# EAGLE library part NC7W*17 (library fairchild-tinylogic)
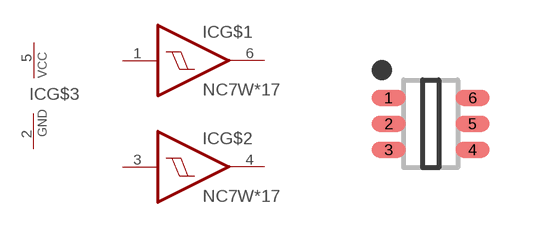
[diagram p0: symbol with the pads of SOT65P210X110-6AN_SC88_SC70-6; footprint SOT65P210X110-6AN_SC88_SC70-6]

Designator prefix IC; gates G$1=BUFFER_SCHMITT G$2=BUFFER_SCHMITT G$3=PWRN

## NC7WV17P6X, NC7WZ17P6X  [SOT65P210X110-6AN_SC88_SC70-6]
1  G$1:I  in
2  G$3:GND  pwr
3  G$2:I  in
4  G$2:O  out
5  G$3:VCC  pwr
6  G$1:O  out

## Footprint SOT65P210X110-6AN_SC88_SC70-6 (pad centres in mm)
smd 0.85 x 0.4: 1 -1.05,0.65; 2 -1.05,0; 3 -1.05,-0.65; 4 1.05,-0.65; 5 1.05,0; 6 1.05,0.65